# Altium footprint library DE-020224.PcbLib: 119 footprints (part 8 of 8)
Each footprint in its own frame and in the unit in brackets; x right, y up, seen from the top. Pads: shape width x height; smd on the part's side, far side on the other; paste and mask are expansions set on the pad; w line width, h text height; cw(c..) or ccw(c..) is an arc to the next point about the centre after c.
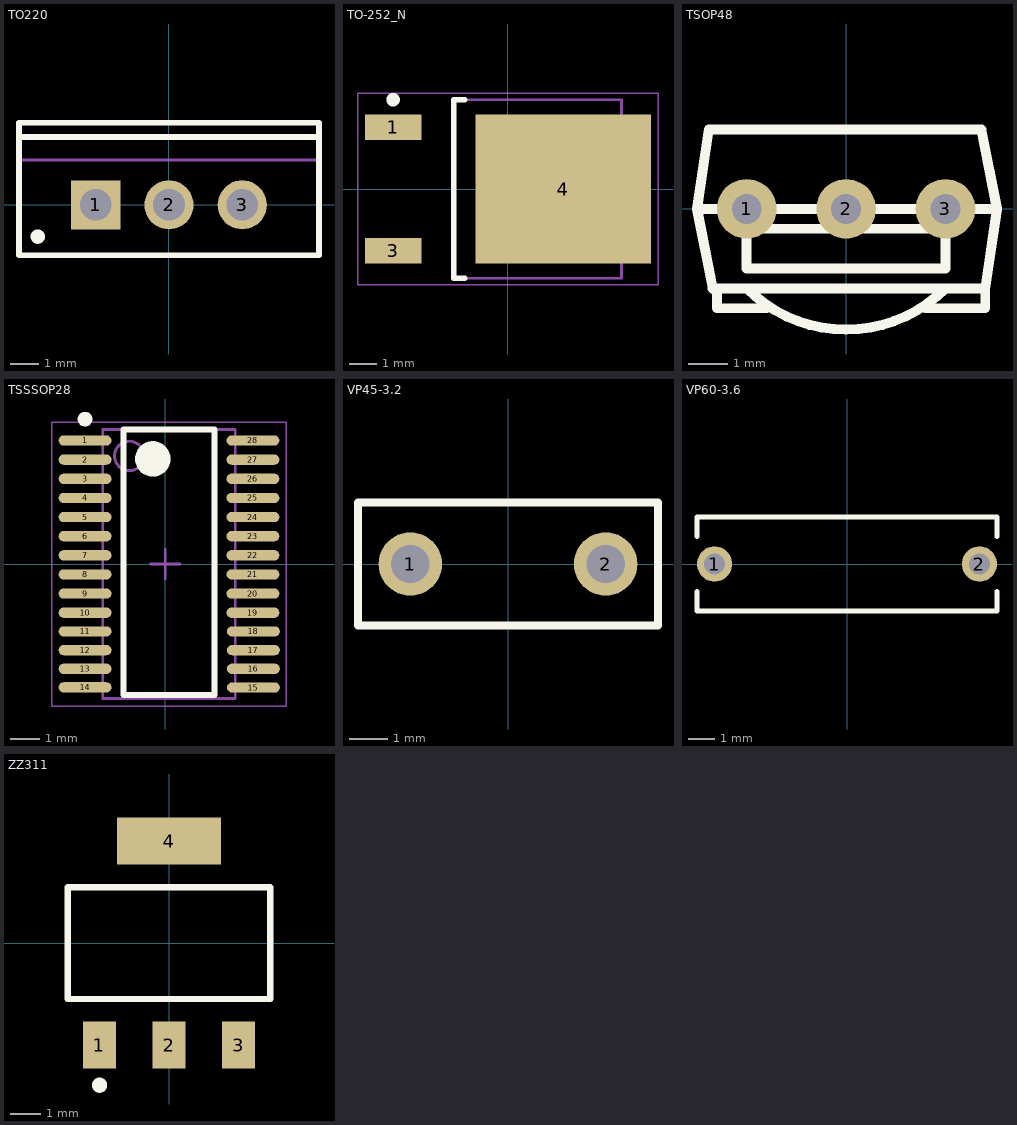
[diagram p7: the footprints below, top view; thin cyan lines are the x and y axes]

## TO220 [mm] "TO, Thru-Hole, Vertical, Heatsink Mounted; 3 In-Line Leads; Pitch 2.54 mm"
height 19.7
pads (3):
  rect 1.7x1.7 hole 1.1: 1(-2.54,0)
  round 1.7 hole 1.1: 2(0,0) 3(2.54,0)
Top Overlay:
  circle w0.25: c-4.55,-1.1 r0.125
  lines w0.2: -5.2,2.35 5.2,2.35 ; -5.2,-1.75 5.2,-1.75 5.2,2.85 -5.2,2.85 -5.2,-1.75
Mechanical 13:
  lines w0.1: -5.2,1.55 5.2,1.55 ; -5.2,-1.75 -5.2,2.85 5.2,2.85 5.2,-1.75 -5.2,-1.75
Mechanical 15:
  lines w0.1: -0.5,0 0.5,0 ; 0,-0.5 0,0.5
3D body: height 13.05, standoff 3.5, extent -5.25,-1.8 5.25,2.9
3D body: height 19.7, standoff 13.05, extent -5.199,1.551 5.199,2.849

## TO-252_N [mm] "D-PAK, 4-Leads, Body 6.1x6.5mm, Pitch 2.28mm, Lead Span 9.7mm, IPC Medium Density"
height 2.4
pads (3):
  rect 2.1x0.95 smd: 1(-4.25,2.28) 3(-4.25,-2.28)
  rect 6.5x5.5 smd: 4(2.05,0)
Top Overlay:
  circle w0.25: c-4.25,3.305 r0.125
  lines w0.2: -1.6,-3.3 -2,-3.3 -2,3.3 -1.6,3.3
Mechanical 13:
  lines w0.1: -2,-3.3 -2,3.3 4.2,3.3 4.2,-3.3 -2,-3.3
Mechanical 15:
  lines w0.05: -5.55,-3.55 -5.55,3.55 5.55,3.55 5.55,-3.55 -5.55,-3.55
  lines w0.1: -0.5,0 0.5,0 ; 0,-0.5 0,0.5
3D body: height 2.4, standoff 0, extent -2,-3.3 4.2,3.3

## TSOP48 [mil] "38kHZ IR receiver"
height 324.8
pads (3):
  round 60 hole 30: 1(-100,0) 2(0,0) 3(100,0)
Top Overlay:
  lines w10: -100,-80 ccw(c0,20) 100,-80 ; -80,-100 -130,-100 -130,-84.25 -134.25,-80 ; 80,-100 140,-100 140,-80 ; -150,0 151.81,0 ; -150,0 -138.19,80 136.06,80 151.81,0 ; -150,0 -134.25,-80 ; -134.25,-80 140,-80 ; 140,-80 151.81,0 ; -100,-60 -100,-20 100,-20 100,-60 -100,-60
3D body: height 273.62, standoff 39.37, extent -150,-130 150,80

## TSSSOP28 [mm] "plastic thin shrink small outline package; 28 leads; body width 4.4 mm"
height 1.1
pads (28):
  oval 1.8x0.35 smd: 1(-2.723,4.195) 2(-2.723,3.545) 3(-2.723,2.895) 4(-2.723,2.245) 5(-2.723,1.595) 6(-2.723,0.945) 7(-2.723,0.295) 8(-2.723,-0.355) 9(-2.723,-1.005) 10(-2.723,-1.655) 11(-2.723,-2.29) 12(-2.723,-2.925) 13(-2.723,-3.56) 14(-2.723,-4.191) 15(2.992,-4.195) 16(2.992,-3.56) 17(2.992,-2.925) 18(2.992,-2.29) 19(2.977,-1.655) 20(2.977,-1.005) 21(2.977,-0.355) 22(2.977,0.295) 23(2.977,0.945) 24(2.977,1.595) 25(2.977,2.245) 26(2.977,2.895) 27(2.977,3.545) 28(2.977,4.195)
Top Overlay:
  circle w0.6: c-0.423,3.57 r0.3
  circle w0.25: c-2.723,4.92 r0.125
  lines w0.2: -1.423,-4.445 1.677,-4.445 1.677,4.57 -1.423,4.57 -1.423,-4.445
Mechanical 13:
  circle w0.1: c-1.223,3.67 r0.5
  lines w0.1: -2.123,-4.572 2.377,-4.572 2.377,4.57 -2.123,4.57 -2.123,-4.572
Mechanical 15:
  lines w0.05: -3.848,-4.826 4.102,-4.826 4.102,4.82 -3.848,4.82 -3.848,-4.826
  lines w0.1: -0.5,0 0.5,0 ; 0,-0.5 0,0.5
3D body: height 1.2, standoff 0.05, extent -2.123,-4.572 2.377,4.57

## VP45-3.2 [mm] "Capacitor, Ceramic, Thru-Hole, Dipped Radial; Body 7.8 x 3.2 mm (WxT) Pin Spacing 5.08 mm (typ)"
height 10
pads (2):
  round 1.65 hole 1: 1(-2.54,0) 2(2.54,0)
Top Overlay:
  lines w0.2: -3.9,-1.6 3.9,-1.6 3.9,1.6 -3.9,1.6 -3.9,-1.6

## VP60-3.6 [mm] "Capacitor, Ceramic, Thru-Hole, Dipped Radial; Body 11.5 x 3.6 mm (WxT) Pin Spacing 10.16 mm (typ)"
height 14.5
pads (2):
  round 1.35 hole 0.8: 1(-5.08,0) 2(5.08,0)
Top Overlay:
  lines w0.2: -5.75,-1.05 -5.75,-1.8 5.75,-1.8 5.75,-1.05 ; -5.75,1.05 -5.75,1.8 5.75,1.8 5.75,1.05

## ZZ311 [mm] "SOT-223/SC-73; 4 Leads; Body 6.7 x 7.3 mm, inc. leads (LxW max)"
height 1.8
pads (4):
  rect 1.1x1.55 smd: 1(-2.3,-3.375) 2(0,-3.375) 3(2.3,-3.375)
  rect 3.45x1.55 smd: 4(0,3.375)
Top Overlay:
  circle w0.25: c-2.3,-4.7 r0.125
  lines w0.2: -3.35,-1.85 -3.35,1.85 3.35,1.85 3.35,-1.85 -3.35,-1.85